# EAGLE library part CIC (library snes_mb)
CIC (Checking Integrated Circuit) Region Lockout Chip PAL Region F413 NTSC Region F411
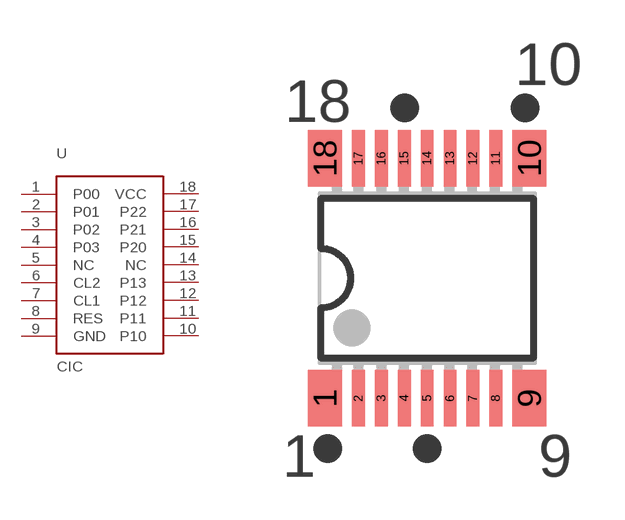
[diagram p8: symbol with the pads of CIC; footprint CIC]

Designator prefix U

## CIC  [CIC]
1  P00
2  P01
3  P02
4  P03
5  NC  nc
6  CL2
7  CL1
8  RES
9  GND  pwr
10  P10
11  P11
12  P12
13  P13
14  NC  nc
15  P20
16  P21
17  P22
18  VCC  pwr

## Footprint CIC (pad centres in mm)
smd 1.2 x 2: 1 -3.6,-4.225; 9 3.6,-4.225; 10 3.6,4.225; 18 -3.6,4.225
smd 0.45 x 2: 2 -2.419,-4.225; 3 -1.613,-4.225; 4 -0.806,-4.225; 5 0,-4.225; 6 0.806,-4.225; 7 1.613,-4.225; 8 2.419,-4.225; 11 2.419,4.225; 12 1.613,4.225; 13 0.806,4.225; 14 0,4.225; 15 -0.806,4.225; 16 -1.613,4.225; 17 -2.419,4.225